# Altium schematic symbol library MOSFET,N Ch,60V,64A.Schlib: 1 symbol
Pins are listed as number, name and electrical type; pins without a type are passive.

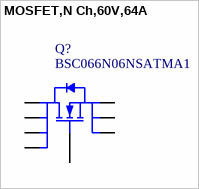
[diagram p0: symbol MOSFET,N Ch,60V,64A]

## MOSFET,N Ch,60V,64A
designator Q?, comment BSC066N06NSATMA1
MOSFET N-CH 60V 64A 8TDSON
pins: 1 S, 2 S, 3 S, 4 G, 5 D, 6 D, 7 D, 8 D